# Altium footprint library CLAP.PcbLib: 265 footprints (part 15 of 17)
Each footprint in its own frame and in the unit in brackets; x right, y up, seen from the top. Pads: shape width x height; smd on the part's side, far side on the other; paste and mask are expansions set on the pad; w line width, h text height; cw(c..) or ccw(c..) is an arc to the next point about the centre after c.
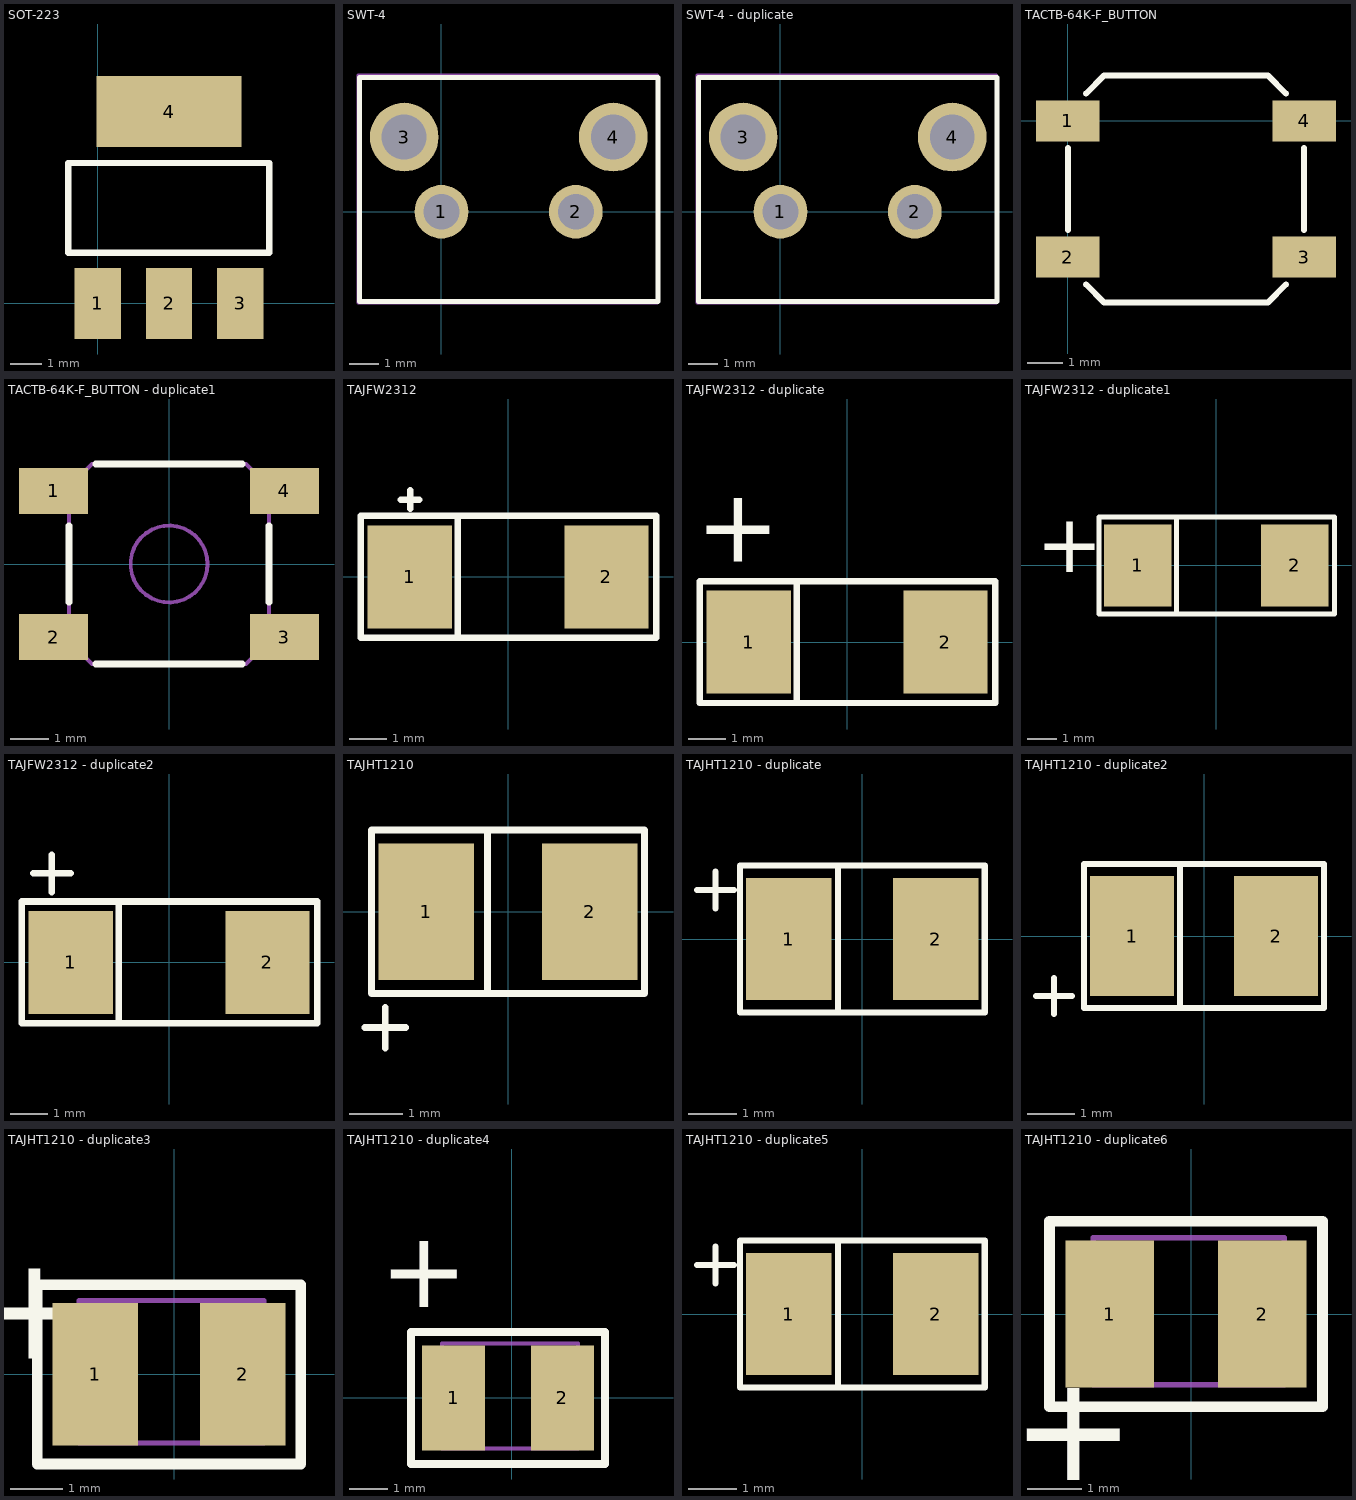
[diagram p14: the footprints below, top view; thin cyan lines are the x and y axes]

## SOT-223 [mm]
height 1.6
pads (4):
  rect 1.5x2.3 smd: 1(0,0) 2(2.3,0) 3(4.6,0)
  rect 4.7x2.3 smd: 4(2.3,6.2)
Top Overlay:
  lines w0.2: -0.96,1.64 -0.96,4.54 5.54,4.54 5.54,1.64 -0.96,1.64
Mechanical 1:
  lines w0.1: -0.96,1.64 -0.96,4.54 ; -0.95,1.65 5.55,1.65 ; -0.95,4.55 5.55,4.55 ; 5.54,1.64 5.54,4.54
3D body "SOT-223.step": height 1.7, standoff 0, extent -1,-0.5 5.5,6.5

## SWT-4 [mm]
pads (4):
  round 1.8 hole 1.2: 1(0,0) 2(4.5,0)
  round 2.3 hole 1.5: 3(-1.25,2.5) 4(5.75,2.5)
Top Overlay:
  lines w0.17: -2.75,-3 7.25,-3 7.25,4.5 -2.75,4.5 -2.75,-3
Mechanical 1:
  lines w0.1: -2.794,-3.048 7.239,-3.048 7.239,4.572 -2.794,4.572 -2.794,-3.048
3D body "SW_Tactile_SPST_Angled_PTS645Vx31-2LFS.step": height 7.01, standoff -3.99, extent -1.45,-3.05 5.95,4.15

## SWT-4 - duplicate [mm]
pads (4):
  round 1.8 hole 1.2: 1(0,0) 2(4.5,0)
  round 2.3 hole 1.5: 3(-1.25,2.5) 4(5.75,2.5)
Top Overlay:
  lines w0.17: -2.75,-3 7.25,-3 7.25,4.5 -2.75,4.5 -2.75,-3
Mechanical 1:
  lines w0.1: -2.794,-3.048 7.239,-3.048 7.239,4.572 -2.794,4.572 -2.794,-3.048
3D body "SW_Tactile_SPST_Angled_PTS645Vx39-2LFS.step": height 7.01, standoff -3.99, extent -1.446,-3.75 5.955,4.15

## TACTB-64K-F_BUTTON [mil]
pads (4):
  rect 70x45 smd: 1(0,0) 2(0,-150) 3(260,-150) 4(260,0)
Top Overlay:
  lines w6.69: 0,-120 0,-30 ; 20,-180 40,-200 220,-200 240,-180 ; 20,30 40,50 220,50 240,30 ; 260,-120 260,-30
3D body "PTS525SKG15.stp": height 59.06, standoff 0, extent 3.93,-177.16 255.9,27.56

## TACTB-64K-F_BUTTON - duplicate1 [mm]
height 1.6
pads (4):
  rect 1.8x1.2 smd: 1(-3,1.9) 2(-3,-1.9) 3(3,-1.9) 4(3,1.9)
Top Overlay:
  lines w0.17: -2.6,-1 -2.6,1 ; -1.9,-2.6 1.9,-2.6 ; -1.9,2.6 1.9,2.6 ; 2.6,-1 2.6,1
Mechanical 1:
  circle w0.1: c0,0 r1
  lines w0.1: -2.6,-2 -2,-2.6 2,-2.6 2.6,-2 2.6,2 2,2.6 -2,2.6 -2.6,2 -2.6,-2
3D body "PTS525SK15.stp": height 1.5, standoff 0, extent -3.2,-2.6 3.2,2.6

## TAJFW2312 [mil]
pads (2):
  rect 90x110 smd: 1(-105,0) 2(105,0)
Top Overlay:
  lines w7: -114.5,82.5 -94.5,82.5 ; -104.5,72.5 -104.5,92.5 ; -53.5,-65 -53.5,65 ; -157,-65 -157,65 158,65 158,-65 -157,-65
3D body "CP_EIA-6032-28_Kemet-C.step": height 110.24, standoff 0, extent -118.11,-62.99 118.11,63

## TAJFW2312 - duplicate [mil]
pads (2):
  rect 90x110 smd: 1(-105,0) 2(105,0)
Top Overlay:
  lines w6.69: -53.5,-65 -53.5,65 ; -157,-65 -157,65 158,65 158,-65 -157,-65
  text "+" at -71.33,153.51 h78.12
Mechanical 1:
  lines w3.94: -53.5,-65 -53.5,65 ; -157,-65 -157,65 158,65 158,-65 -157,-65
  text "+" at -71.33,153.51 h78.12
3D body "CP_EIA-6032-28_Kemet-C.step": height 110.24, standoff 0, extent -118.1,-62.99 118.11,62.99

## TAJFW2312 - duplicate1 [mil]
pads (2):
  rect 90x110 smd: 1(-105,0) 2(105,0)
Top Overlay:
  lines w6.69: -53.5,-65 -53.5,65 ; -157,-65 -157,65 158,65 158,-65 -157,-65
  text "+" at -241.2,-9.41 h78.12
Mechanical 1:
  lines w3.94: -53.5,-65 -53.5,65 ; -157,-65 -157,65 158,65 158,-65 -157,-65
  text "+" at -235.29,-62.56 h78.12
3D body "CP_EIA-6032-28_Kemet-C.step": height 110.24, standoff 0, extent -118.11,-62.99 118.11,63

## TAJFW2312 - duplicate2 [mil]
pads (2):
  rect 90x110 smd: 1(-105,0) 2(105,0)
Top Overlay:
  lines w7: -145,95 -105,95 ; -125,75 -125,115 ; -53.5,-65 -53.5,65 ; -157,-65 -157,65 158,65 158,-65 -157,-65
3D body "CP_EIA-6032-28_Kemet-C.step": height 110.24, standoff 0, extent -118.1,-62.99 118.12,63

## TAJHT1210 [mil]
pads (2):
  rect 70x100 smd: 1(-60,0) 2(60,0)
Top Overlay:
  lines w5: -105,-85 -75,-85 ; -90,-100 -90,-70 ; -15,-60 -15,60 ; -100,-60 100,-60 100,60 -100,60 -100,-60
3D body "CAPMP3528X120N.stp": height 47.24, standoff 0, extent -72.83,-59.06 72.84,59.05

## TAJHT1210 - duplicate [mil]
pads (2):
  rect 70x100 smd: 1(-60,0) 2(60,0)
Top Overlay:
  lines w5: -135,40 -105,40 ; -120,25 -120,55 ; -20,-60 -20,60 ; -100,-60 -100,60 100,60 100,-60 -100,-60
3D body "CP_EIA-3528-21_Kemet-B.step": height 82.68, standoff 0, extent -68.89,-55.11 68.9,55.12

## TAJHT1210 - duplicate2 [mil]
pads (2):
  rect 70x100 smd: 1(-60,0) 2(60,0)
Top Overlay:
  lines w5: -140,-50 -110,-50 ; -125,-65 -125,-35 ; -20,-60 -20,60 ; -100,-60 -100,60 100,60 100,-60 -100,-60
3D body "CP_EIA-3528-21_Kemet-B.step": height 82.68, standoff 0, extent -68.89,-55.12 68.9,55.12

## TAJHT1210 - duplicate3 [mm]
height 2.1
pads (2):
  rect 1.626x2.7 smd: 1(-1.5,0) 2(1.3,0)
Top Overlay:
  lines w0.2: -2.6,-1.7 -2.6,1.7 2.4,1.7 2.4,-1.7 -2.6,-1.7
  text "+" at -1.511,2.003 h1.98
Mechanical 1:
  lines w0.1: -1.8,-1.3 -1.8,1.4 1.7,1.4 1.7,-1.3 -1.8,-1.3
  text "+" at -1.165,2.203 h1.98
3D body "CP_EIA-3528-21_Kemet-B.step": height 2.1, standoff 0, extent -1.75,-1.4 1.75,1.4

## TAJHT1210 - duplicate4 [mm]
pads (2):
  rect 1.626x2.7 smd: 1(-1.5,0) 2(1.3,0)
Top Overlay:
  lines w0.2: -2.6,-1.7 -2.6,1.7 2.4,1.7 2.4,-1.7 -2.6,-1.7
  text "+" at -1.124,4.039 h1.98
Mechanical 1:
  lines w0.1: -1.8,-1.3 -1.8,1.4 1.7,1.4 1.7,-1.3 -1.8,-1.3
  text "+" at -0.374,1.439 h1.98
3D body "CP_EIA-3528-21_Kemet-B.step": height 2.1, standoff 0, extent -1.75,-1.4 1.75,1.4

## TAJHT1210 - duplicate5 [mil]
pads (2):
  rect 70x100 smd: 1(-60,0) 2(60,0)
Top Overlay:
  lines w5: -135,40 -105,40 ; -120,25 -120,55 ; -20,-60 -20,60 ; -100,-60 100,-60 100,60 -100,60 -100,-60
3D body "CP_EIA-3528-21_Kemet-B.step": height 82.68, standoff 0, extent -68.89,-55.11 68.9,55.12

## TAJHT1210 - duplicate6 [mm]
pads (2):
  rect 1.626x2.7 smd: 1(-1.5,0) 2(1.3,0)
Top Overlay:
  lines w0.2: -2.6,-1.7 2.4,-1.7 2.4,1.7 -2.6,1.7 -2.6,-1.7
  text "+" at -1.024,-1.361 h1.98
Mechanical 1:
  lines w0.1: -1.8,-1.3 1.7,-1.3 1.7,1.4 -1.8,1.4 -1.8,-1.3
  text "+" at -0.424,1.389 h1.98
3D body "CP_EIA-3528-21_Kemet-B.step": height 2.1, standoff 0, extent -1.75,-1.4 1.75,1.4